# EAGLE library part NANOHUB (library NanoHub)
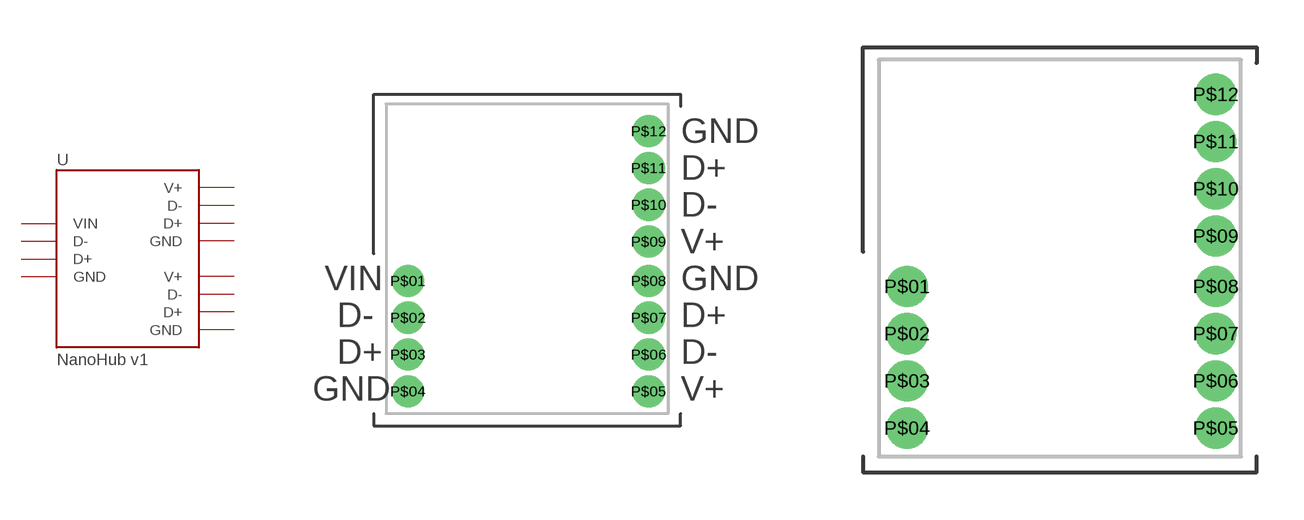
[diagram p0: symbol with the pads of NANOHUB; footprints NANOHUB, NANOHUB_BPLACE]

Designator prefix -

## NANOHUBV1  [NANOHUB]
P$01  VIN  pwr
P$02  D-
P$03  D+
P$04  GND  pwr
P$05  V+  pwr
P$06  D-
P$07  D+
P$08  GND  pwr
P$09  V+  pwr
P$10  D-
P$11  D+
P$12  GND  pwr

## NANOHUBV1_BPLACE  [NANOHUB_BPLACE]
Pads as for NANOHUB

## Footprint NANOHUB (pad centres in mm)
drill 0.8 pad 1.1: P$01 0.9,5.4; P$02 0.9,3.9; P$03 0.9,2.4; P$04 0.9,0.9; P$05 10.7,0.9; P$06 10.7,2.4; P$07 10.7,3.9; P$08 10.7,5.4; P$09 10.7,7; P$10 10.7,8.5; P$11 10.7,10; P$12 10.7,11.5

## Footprint NANOHUB_BPLACE (pad centres in mm)
drill 0.8 pad 1.1: P$01 0.9,5.4; P$02 0.9,3.9; P$03 0.9,2.4; P$04 0.9,0.9; P$05 10.7,0.9; P$06 10.7,2.4; P$07 10.7,3.9; P$08 10.7,5.4; P$09 10.7,7; P$10 10.7,8.5; P$11 10.7,10; P$12 10.7,11.5